# Altium footprint library Footprint_Button.PcbLib: 5 footprints
Each footprint in its own frame and in the unit in brackets; x right, y up, seen from the top. Pads: shape width x height; smd on the part's side, far side on the other; paste and mask are expansions set on the pad; w line width, h text height; cw(c..) or ccw(c..) is an arc to the next point about the centre after c.
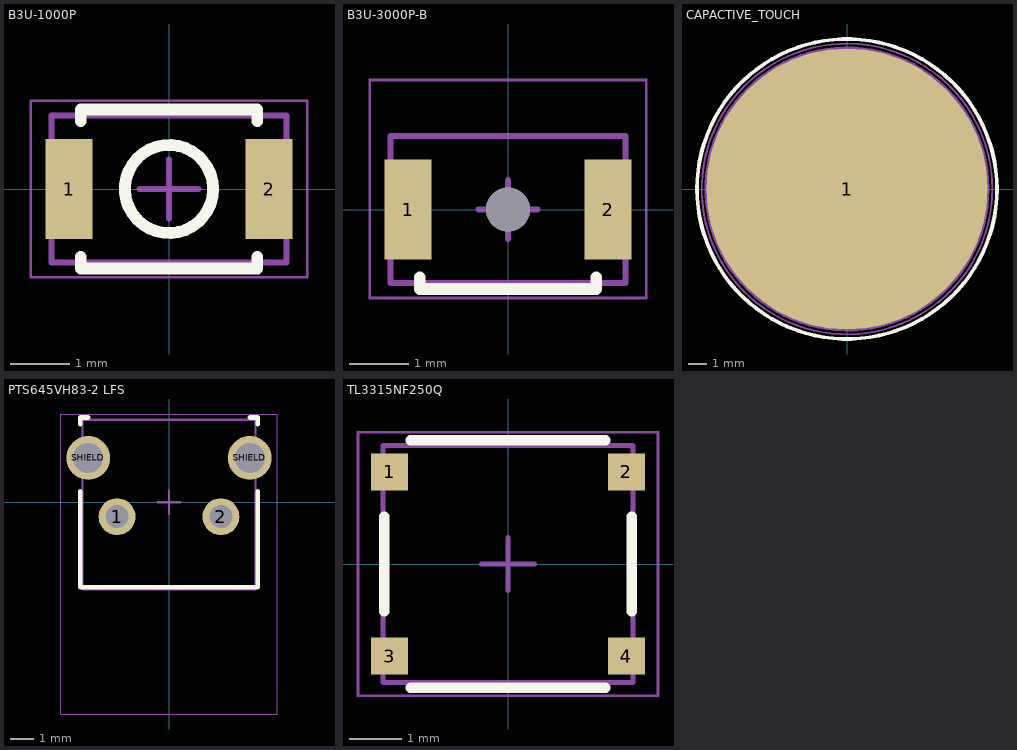
[diagram p0: the footprints below, top view; thin cyan lines are the x and y axes]

## B3U-1000P [mm] "SWITCH TACTILE SPST-NO 0.05A 12V"
pads (2):
  rect 0.8x1.7 smd: 1(-1.7,0) 2(1.7,0)
Top Overlay:
  circle w0.2: c0,0 r0.75
  lines w0.2: -1.5,-1.15 -1.5,-1.35 1.5,-1.35 1.5,-1.15 ; -1.5,1.15 -1.5,1.35 1.5,1.35 1.5,1.15
Top Assembly:
  lines w0.1: -2,-1.25 -2,1.25 2,1.25 2,-1.25 -2,-1.25
  text ".Designator" at -7.747,-1.27 h0.51
Top Courtyard:
  lines w0.05: -2.35,-1.5 2.35,-1.5 2.35,1.5 -2.35,1.5 -2.35,-1.5
  lines w0.1: -0.5,0 0.5,0 ; 0,-0.5 0,0.5
3D body "Switch_Omron_B3U-1000P_eec.STEP": height 1.6, standoff 0, extent -2,-1.256 2,1.244

## B3U-3000P-B [mm] "SWITCH TACTILE SPST-NO 0.05A 12V"
pads (3):
  rect 0.8x1.7 smd: 1(-1.7,0) 2(1.7,0)
  round 0.75 hole 0.75 unplated: ""(0,0)
Top Overlay:
  lines w0.2: -1.5,-1.15 -1.5,-1.35 1.5,-1.35 1.5,-1.15
Top Assembly:
  lines w0.1: -2,-1.25 -2,1.25 2,1.25 2,-1.25 -2,-1.25
  text ".Designator" at -7.747,-1.27 h0.51
Top Courtyard:
  lines w0.05: -2.35,-1.5 2.35,-1.5 2.35,2.2 -2.35,2.2 -2.35,-1.5
  lines w0.1: -0.5,0 0.5,0 ; 0,-0.5 0,0.5
3D body "B3U_3000P[]_B.step": height 1.2, standoff -0.5, extent -2,-1.25 2,1.95

## CAPACTIVE_TOUCH [mm] "Capactive touch button"
pads (1):
  round 15 smd mask+0.102: 1(0,0)
Top Overlay:
  circle w0.2: c0,0 r8
Top Assembly:
  circle w0.2: c0,0 r7.5
  text ".Designator" at -7.747,-1.27 h1.27
Top Courtyard:
  circle w0.1: c0,0 r7.75
  lines w0.1: -0.5,0 0.5,0 ; 0,-0.5 0,0.5

## PTS645VH83-2 LFS [mm] "SWITCH TACTILE SPST-NO 0.05A 12V"
pads (4):
  round 1.6 hole 1: 1(-2.25,-0.625) 2(2.25,-0.625)
  round 1.9 hole 1.3: SHIELD(-3.5,1.925) SHIELD(3.5,1.925)
Top Overlay:
  lines w0.2: -3.85,0.475 -3.85,-3.675 3.85,-3.675 3.85,0.475 ; -3.85,3.375 -3.85,3.675 -3.5,3.675 ; 3.5,3.675 3.85,3.675 3.85,3.375
Top Assembly:
  lines w0.1: -3.75,-3.775 3.75,-3.775 3.75,3.575 -3.75,3.575 -3.75,-3.775
  text ".Designator" at -7.747,-1.27 h1.27
Top Courtyard:
  lines w0.05: -4.7,-9.175 4.7,-9.175 4.7,3.825 -4.7,3.825 -4.7,-9.175
  lines w0.1: -0.5,0 0.5,0 ; 0,-0.5 0,0.5
3D body "PTS645VH83-2LFS.stp": height 7.43, standoff -3.92, extent -4.247,-8.925 4.247,3.575

## TL3315NF250Q [mm] "SWITCH TACTILE SPST-NO 0.05A 15V"
pads (4):
  rect 0.7x0.7 smd: 1(-2.25,1.75) 2(2.25,1.75) 3(-2.25,-1.75) 4(2.25,-1.75)
Top Overlay:
  lines w0.2: -2.35,-0.9 -2.35,0.9 ; -1.85,-2.35 1.85,-2.35 ; -1.85,2.35 1.85,2.35 ; 2.35,-0.9 2.35,0.9
Top Assembly:
  lines w0.1: -2.375,-2.25 -2.375,2.25 2.375,2.25 2.375,-2.25 -2.375,-2.25
  text ".Designator" at -7.747,-1.27 h0.51
Top Courtyard:
  lines w0.05: -2.85,-2.5 -2.85,2.5 2.85,2.5 2.85,-2.5 -2.85,-2.5
  lines w0.1: -0.5,0 0.5,0 ; 0,-0.5 0,0.5
3D body "TL3315NF160Q--3DModel-STEP-520916.STEP": height 0.6, standoff 0, extent -2.375,-2.25 2.375,2.25